# Altium integrated library Resistors 0402.IntLib: 11 symbols
Pins are listed as number, name and electrical type; pins without a type are passive.

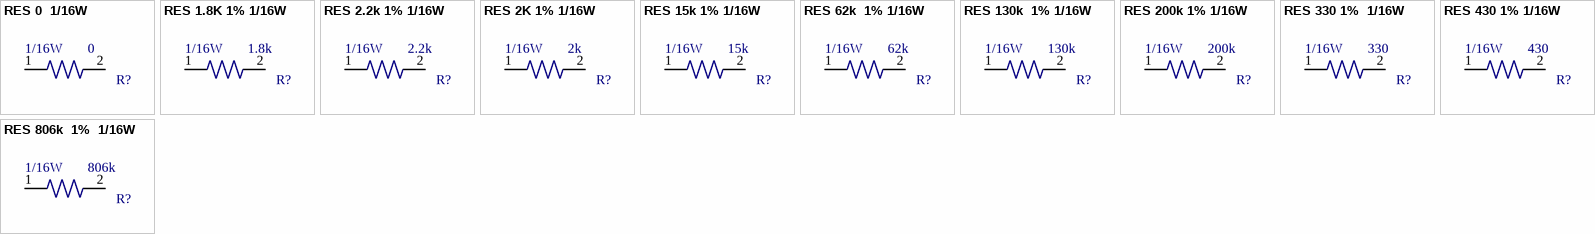
[diagram p0: symbols RES 0  1/16W to RES 806k  1%  1/16W]

## RES 0  1/16W
designator R?, comment Resistence: 0  Power: 1/16W  (hidden comment: RES 0402)
0 Ohms Jumper 0.063W, 1/16W Chip Resistor 0402 (1005 Metric) Moisture Resistant Thick Film; Manufacturer 1: Yageo; Manufacturer 1 PN: RC0402JR-070RL; Digikey PN: 311-0.0JRCT-ND; Mouser PN: 603-RC0402JR-070RL; ComponentLink1Description: Datasheet; ComponentLink1URL: http://www.yageo.com/documents/recent/PYu-RC_Group_51_RoHS_L_10.pdf
footprint RES SMD 0 OHM 1/16W 0402 (0 Ohms Jumper 0.063W, 1/16W Chip Resistor 0402 (1005 Metric) Moisture Resistant Thick Film)
pins: 1, 2

## RES 1.8K 1% 1/16W
designator R?, comment Resistence: 1.8k  Power: 1/16W  (hidden comment: RES 0402)
1.8 kOhms ±1% 0.063W, 1/16W Chip Resistor 0402 (1005 Metric) Automotive AEC-Q200, Moisture Resistant Thick Film; Manufacturer 1: Yageo; Manufacturer 1 PN: RC0402FR-071K8L; Digikey PN: 311-1.80KLRCT-ND; Mouser PN: 603-RC0402FR-071K8L; ComponentLink1Description: Datasheet; ComponentLink1URL: http://www.yageo.com/documents/recent/PYu-RC_Group_51_RoHS_L_10.pdf
footprint RES SMD 1.8k OHM 1% 1/16W 0402 (1.8 kOhms ±1% 0.063W, 1/16W Chip Resistor 0402 (1005 Metric) Moisture Resistant Thick Film)
pins: 1, 2

## RES 2.2k 1% 1/16W
designator R?, comment Resistence: 2.2k  Power: 1/16W  (hidden comment: RES 0402)
2.2 kOhms ±1% 0.063W, 1/16W Chip Resistor 0402 (1005 Metric) Moisture Resistant Thick Film; Manufacturer 1: Yageo; Manufacturer 1 PN: RC0402FR-072K2L; Digikey PN: 311-2.20KLRCT-ND; Mouser PN: 603-RC0402FR-072K2L; ComponentLink1Description: Datasheet; ComponentLink1URL: http://www.yageo.com/documents/recent/PYu-RC_Group_51_RoHS_L_10.pdf
footprint RES SMD 2.2k OHM 1% 1/16W 0402 (2.2 kOhms ±1% 0.063W, 1/16W Chip Resistor 0402 (1005 Metric) Moisture Resistant Thick Film)
pins: 1, 2

## RES 2K 1% 1/16W
designator R?, comment Resistence: 2k  Power: 1/16W  (hidden comment: RES 0402)
2 kOhms ±1% 0.063W, 1/16W Chip Resistor 0402 (1005 Metric) Moisture Resistant Thick Film; Manufacturer 1: Yageo; Manufacturer 1 PN: RC0402FR-072KL; Digikey PN: 311-2KLRCT-ND; Mouser PN: 603-RC0402FR-072KL; ComponentLink1Description: Datasheet; ComponentLink1URL: http://www.yageo.com/documents/recent/PYu-RC_Group_51_RoHS_L_10.pdf
footprint RES SMD 2K  OHM 1% 1/16W 0402 (2 kOhms ±1% 0.063W, 1/16W Chip Resistor 0402 (1005 Metric) Moisture Resistant Thick Film)
pins: 1, 2

## RES 15k 1% 1/16W
designator R?, comment Resistence: 15k  Power: 1/16W  (hidden comment: RES 0402)
15 kOhms ±1% 0.063W, 1/16W Chip Resistor 0402 (1005 Metric) Moisture Resistant Thick Film; Manufacturer 1: Yageo; Manufacturer 1 PN: RC0402FR-0715KL; Digikey PN: 311-15.0KLRCT-ND; Mouser PN: 603-RC0402FR-0715KL; ComponentLink1Description: Datasheet; ComponentLink1URL: http://www.yageo.com/documents/recent/PYu-RC_Group_51_RoHS_L_10.pdf
footprint RES SMD 15k OHM 1% 1/16W 0402 (15 kOhms ±1% 0.063W, 1/16W Chip Resistor 0402 (1005 Metric) Moisture Resistant Thick Film)
pins: 1, 2

## RES 62k  1% 1/16W
designator R?, comment Resistence: 62k  Power: 1/16W  (hidden comment: RES 0402)
62 kOhms ±1% 0.063W, 1/16W Chip Resistor 0402 (1005 Metric) Moisture Resistant Thick Film; Manufacturer 1: Yageo; Manufacturer 1 PN: RC0402FR-0762KL; Digikey PN: 311-62.0KLRCT-ND; Mouser PN: 603-RC0402FR-0762KL; ComponentLink1Description: Datasheet; ComponentLink1URL: http://www.yageo.com/documents/recent/PYu-RC_Group_51_RoHS_L_10.pdf
footprint RES SMD 62k OHM 1% 1/16W 0402 (62 kOhms ±1% 0.063W, 1/16W Chip Resistor 0402 (1005 Metric) Moisture Resistant Thick Film)
pins: 1, 2

## RES 130k  1% 1/16W
designator R?, comment Resistence: 130k  Power: 1/16W  (hidden comment: RES 0402)
130 kOhms ±1% 0.063W, 1/16W Chip Resistor 0402 (1005 Metric) Moisture Resistant Thick Film; Manufacturer 1: Yageo; Manufacturer 1 PN: RC0402FR-07130KL; Digikey PN: YAG2969CT-ND; Mouser PN: 603-RC0402FR-07130KL; ComponentLink1Description: Datasheet; ComponentLink1URL: http://www.yageo.com/documents/recent/PYu-RC_Group_51_RoHS_L_10.pdf
footprint RES SMD 130k OHM 1% 1/16W 0402 (130 kOhms ±1% 0.063W, 1/16W Chip Resistor 0402 (1005 Metric) Moisture Resistant Thick Film)
pins: 1, 2

## RES 200k 1% 1/16W
designator R?, comment Resistence: 200k  Power: 1/16W  (hidden comment: RES 0402)
200 kOhms ±1% 0.063W, 1/16W Chip Resistor 0402 (1005 Metric) Moisture Resistant Thick Film; Manufacturer 1: Yageo; Manufacturer 1 PN: RC0402FR-07200KL; Digikey PN: 311-200KLRCT-ND; Mouser PN: 603-RC0402FR-07200KL; ComponentLink1Description: Datasheet; ComponentLink1URL: http://www.yageo.com/documents/recent/PYu-RC_Group_51_RoHS_L_10.pdf
footprint RES SMD 200k OHM 1% 1/16W 0402 (200 kOhms ±1% 0.063W, 1/16W Chip Resistor 0402 (1005 Metric) Moisture Resistant Thick Film)
pins: 1, 2

## RES 330 1%  1/16W
designator R?, comment Resistence: 330  Power: 1/16W  (hidden comment: RES 0402)
330 Ohms ±1% 0.063W, 1/16W Chip Resistor 0402 (1005 Metric) Moisture Resistant Thick Film; Manufacturer 1: Yageo; Manufacturer 1 PN: RC0402FR-07330RL; Digikey PN: 311-330LRCT-ND; Mouser PN: 603-RC0402FR-07330RL; ComponentLink1Description: Datasheet; ComponentLink1URL: http://www.yageo.com/documents/recent/PYu-RC_Group_51_RoHS_L_10.pdf
footprint RES SMD 330 OHM 1% 1/16W 0402 (330 Ohms ±1% 0.063W, 1/16W Chip Resistor 0402 (1005 Metric) Moisture Resistant Thick Film)
pins: 1, 2

## RES 430 1% 1/16W
designator R?, comment Resistence: 430  Power: 1/16W  (hidden comment: RES 0402)
430 Ohms ±1% 0.063W, 1/16W Chip Resistor 0402 (1005 Metric) Moisture Resistant Thick Film; Manufacturer 1: Yageo; Manufacturer 1 PN: RC0402FR-07430RL; Digikey PN: 311-430LRCT-ND; Mouser PN: 603-RC0402FR-07430RL; ComponentLink1Description: Datasheet; ComponentLink1URL: http://www.yageo.com/documents/recent/PYu-RC_Group_51_RoHS_L_10.pdf
footprint RES SMD 430 OHM 1% 1/16W 0402 (430 Ohms ±1% 0.063W, 1/16W Chip Resistor 0402 (1005 Metric) Moisture Resistant Thick Film)
pins: 1, 2

## RES 806k  1%  1/16W
designator R?, comment Resistence: 806k  Power: 1/16W  (hidden comment: RES 0402)
806 kOhms ±1% 0.063W, 1/16W Chip Resistor 0402 (1005 Metric) Moisture Resistant Thick Film; Manufacturer 1: Yageo; Manufacturer 1 PN: RC0402FR-07806KL; Digikey PN: YAG3238CT-ND; Mouser PN: 603-RC0402FR-07806KL; ComponentLink1Description: Datasheet; ComponentLink1URL: http://www.yageo.com/documents/recent/PYu-RC_Group_51_RoHS_L_10.pdf
footprint RES SMD 806k OHM 1% 1/16W 0402 (806 kOhms ±1% 0.063W, 1/16W Chip Resistor 0402 (1005 Metric) Moisture Resistant Thick Film)
pins: 1, 2